# EAGLE library part RELAY_DPDT (library misc)
General Purpose Relay DPDT
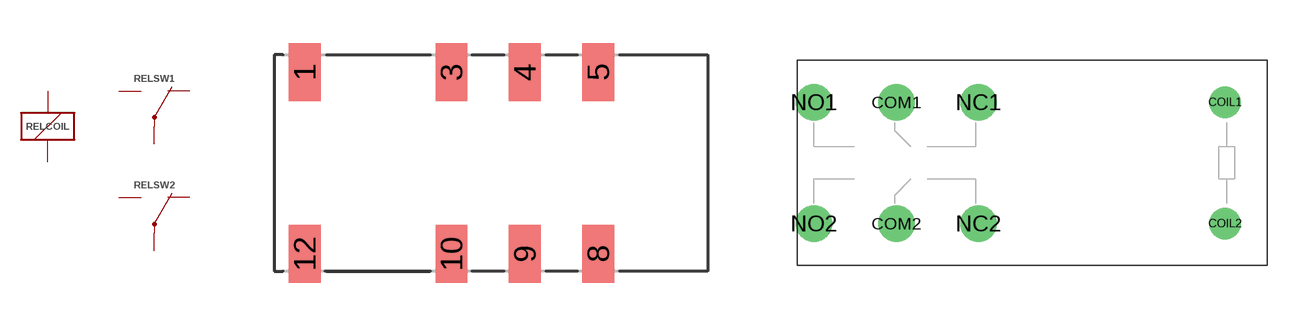
[diagram p77: symbol with the pads of EE2-5NUH-L; footprints EE2-5NUH-L, TRA3]

Designator prefix REL; gates COIL=K SW1=U SW2=U

## RELAY_DPDT-EE2  [EE2-5NUH-L]
1  COIL:1  pas
3  SW1:NC  pas
4  SW1:COM  pas
5  SW1:NO  pas
8  SW2:NO  pas
9  SW2:COM  pas
10  SW2:NC  pas
12  COIL:2  pas

## RELAY_DPDT-TRA3 (MANF: Tianbo Relay; MANF#: TRA3-L-12VDC-S-2Z)  [TRA3]
COIL1  COIL:1  pas
COIL2  COIL:2  pas
COM1  SW1:COM  pas
COM2  SW2:COM  pas
NC1  SW1:NC  pas
NC2  SW2:NC  pas
NO1  SW1:NO  pas
NO2  SW2:NO  pas

## Footprint EE2-5NUH-L (pad centres in mm)
Datasheet <https://content.kemet.com/datasheets/KEM_R7002_EC2_EE2.pdf>
smd 1.1 x 2: 1 -6.45,3.15; 3 -1.37,3.15; 4 1.17,3.15; 5 3.71,3.15; 8 3.71,-3.15; 9 1.17,-3.15; 10 -1.37,-3.15; 12 -6.45,-3.15

## Footprint TRA3 (pad centres in mm)
Datasheet <https://radiodetali.com/datasheet/kommutaciya/pdf-123354.pdf>
drill 1.3: COIL1 11.9,3.75; COIL2 11.9,-3.75
drill 1.5: COM1 -8.4,3.75; COM2 -8.4,-3.75; NC1 -3.32,3.75; NC2 -3.32,-3.75; NO1 -13.48,3.75; NO2 -13.48,-3.75